# Altium footprint library Mainboard_footprints.PcbLib: 18 footprints (part 1 of 2)
Each footprint in its own frame and in the unit in brackets; x right, y up, seen from the top. Pads: shape width x height; smd on the part's side, far side on the other; paste and mask are expansions set on the pad; w line width, h text height; cw(c..) or ccw(c..) is an arc to the next point about the centre after c.
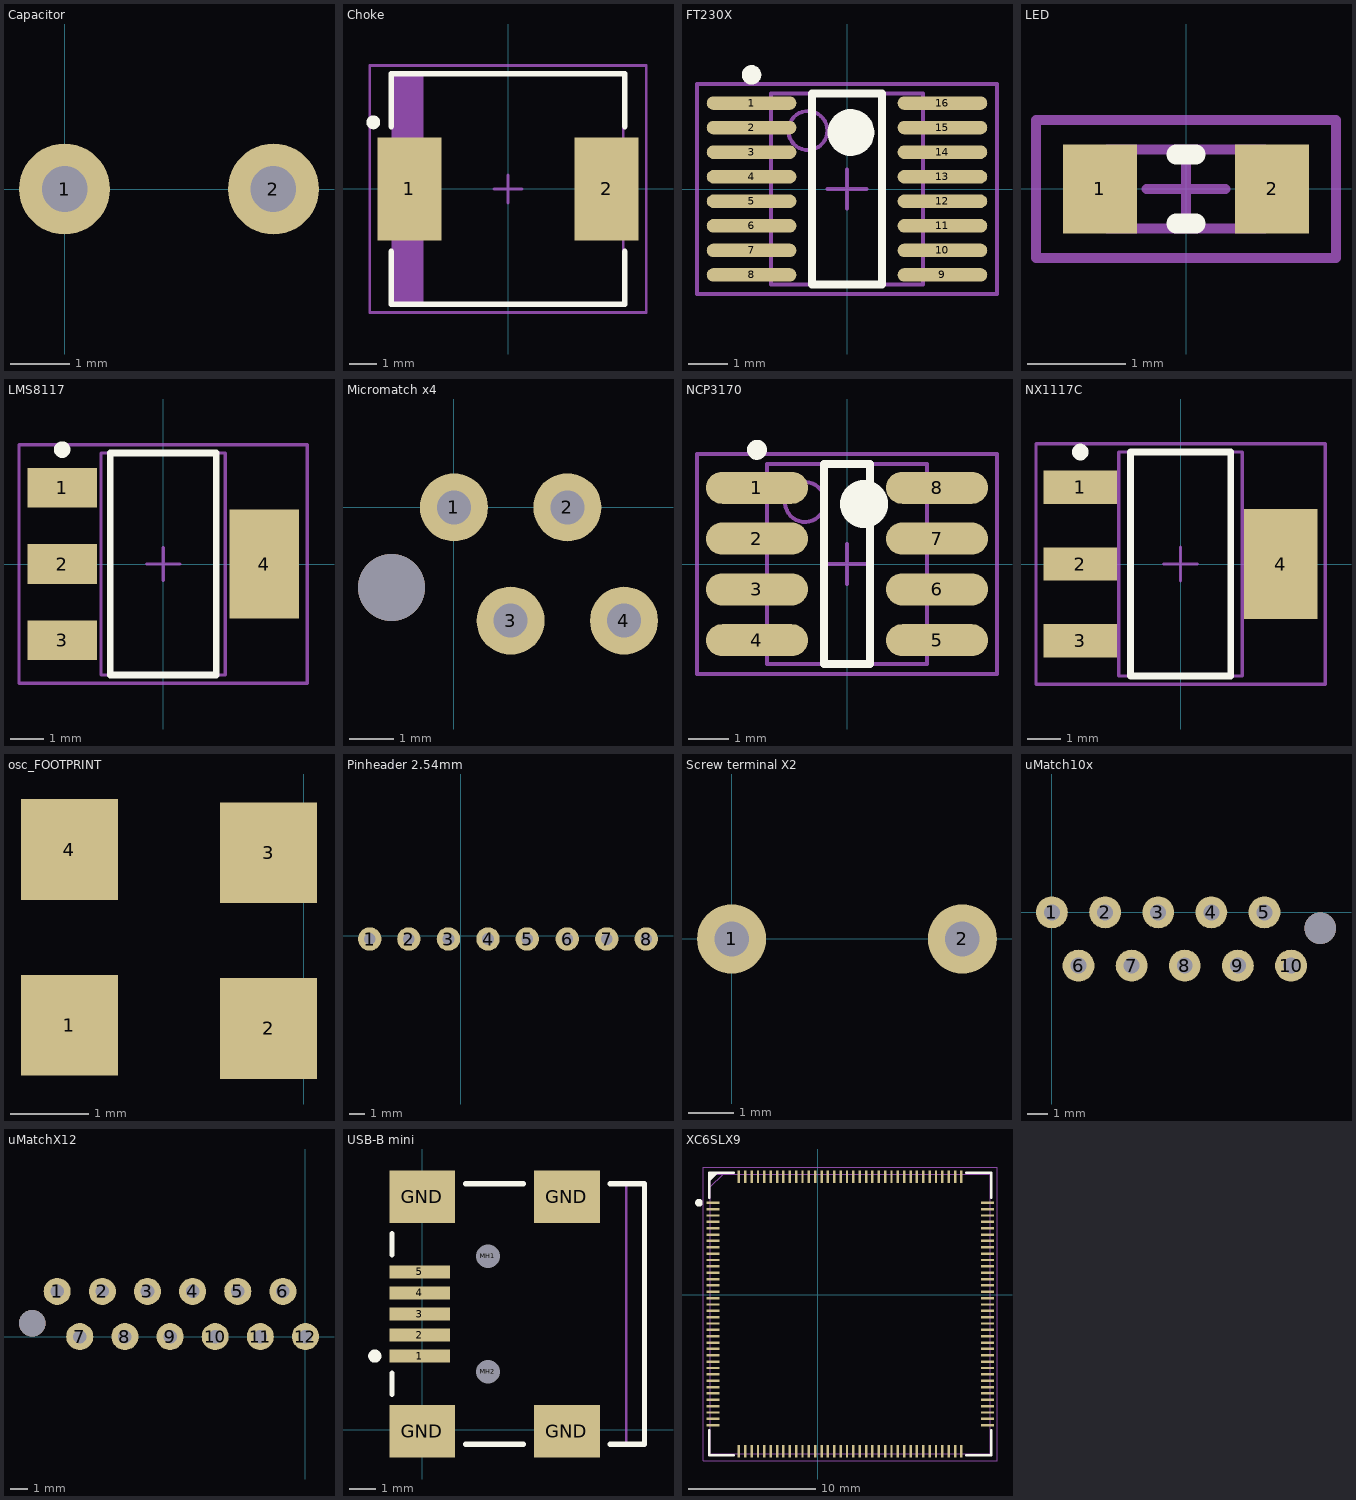
[diagram p0: the footprints below, top view; thin cyan lines are the x and y axes]

## Capacitor [mil]
pads (2):
  round 60 hole 30: 1(0,0) 2(137.8,0)

## Choke [mm] "Precision Wire Wound Inductor, 2-Leads, Body 8,2x8,2mm, IPC Medium Density"
height 2.29
pads (2):
  rect 2.3x3.7 smd: 1(-3.55,0) 2(3.55,0)
Top Overlay:
  circle w0.25: c-4.85,2.4 r0.125
  lines w0.2: -4.2,-2.25 -4.2,-4.15 4.2,-4.15 4.2,-2.25 ; -4.2,2.25 -4.2,4.15 4.2,4.15 4.2,2.25
Mechanical 13:
  rectangle: -4.15,-4.15 -3.034,4.15
  lines w0.1: -4.15,-4.15 -4.15,4.15 4.15,4.15 4.15,-4.15 -4.15,-4.15
Mechanical 15:
  lines w0.1: -0.5,0 0.5,0 ; 0,-0.5 0,0.5 ; -4.975,-4.45 -4.975,4.45 4.975,4.45 4.975,-4.45 -4.975,-4.45
3D body: height 2.29, standoff 0, extent -4.15,-4.15 4.15,4.15

## FT230X [mm] "TSOP, 16-Leads, Body 4,9x3,9mm (max), Pitch 0,63mm, IPC Medium Density"
height 1.34
pads (16):
  oval 2.3x0.35 smd: 1(-2.45,2.205) 2(-2.45,1.575) 3(-2.45,0.945) 4(-2.45,0.315) 5(-2.45,-0.315) 6(-2.45,-0.945) 7(-2.45,-1.575) 8(-2.45,-2.205) 9(2.45,-2.205) 10(2.45,-1.575) 11(2.45,-0.945) 12(2.45,-0.315) 13(2.45,0.315) 14(2.45,0.945) 15(2.45,1.575) 16(2.45,2.205)
Top Overlay:
  circle w0.6: c0.1,1.45 r0.3
  circle w0.25: c-2.45,2.93 r0.125
  lines w0.2: -0.9,-2.45 0.9,-2.45 0.9,2.45 -0.9,2.45 -0.9,-2.45
Mechanical 13:
  circle w0.1: c-1.005,1.5 r0.5
  lines w0.1: -1.955,-2.45 1.955,-2.45 1.955,2.45 -1.955,2.45 -1.955,-2.45
Mechanical 15:
  lines w0.1: -0.5,0 0.5,0 ; 0,-0.5 0,0.5 ; -3.85,-2.7 3.85,-2.7 3.85,2.7 -3.85,2.7 -3.85,-2.7
3D body: height 1.34, standoff 0.1, extent -1.955,-2.45 1.955,2.45

## LED [mm] "LED 0603, SMD"
height 0.8
pads (2):
  rect 0.75x0.9 smd: 1(-0.875,0) 2(0.875,0)
Top Overlay:
  lines w0.2: -0.1,-0.35 0.1,-0.35 ; -0.1,0.35 0.1,0.35
Mechanical 13:
  lines w0.1: -0.8,-0.4 0.8,-0.4 0.8,0.4 -0.8,0.4 -0.8,-0.4
Mechanical 15:
  lines w0.1: -0.4,0 0.4,0 ; 0,-0.4 0,0.4 ; -1.525,-0.7 1.525,-0.7 1.525,0.7 -1.525,0.7 -1.525,-0.7
3D body: height 0.8, standoff 0, extent -0.8,-0.4 0.8,0.4

## LMS8117 [mm] "LDO 5V ->3V3"
height 1.55
pads (4):
  rect 2.1x1.2 smd: 1(-3.05,2.3) 2(-3.05,0) 3(-3.05,-2.3)
  rect 2.1x3.3 smd: 4(3.05,0)
Top Overlay:
  circle w0.25: c-3.05,3.45 r0.125
  lines w0.2: -1.6,-3.35 -1.6,3.35 1.6,3.35 1.6,-3.35 -1.6,-3.35
Mechanical 13:
  lines w0.1: -1.875,-3.35 -1.875,3.35 1.875,3.35 1.875,-3.35 -1.875,-3.35
Mechanical 15:
  lines w0.1: -0.5,0 0.5,0 ; 0,-0.5 0,0.5 ; -4.35,-3.6 -4.35,3.6 4.35,3.6 4.35,-3.6 -4.35,-3.6
3D body: height 1.55, standoff 0.02, extent -1.875,-3.35 1.875,3.35

## Micromatch x4 [mil] "Micromatch x4"
pads (4):
  round 60 hole 30: 1(0,0) 2(100,0) 3(50,-100) 4(150,-100)
via -55.12,-70.87 diameter 59.06 hole 59.06
Drill Guide:
  circle w10: c-55.12,-70.87 r29.53

## NCP3170 [mm] "Voltage Regulator 18V-3V3"
height 1.75
pads (8):
  oval 2.55x0.8 smd: 1(-2.25,1.905) 2(-2.25,0.635) 3(-2.25,-0.635) 4(-2.25,-1.905) 5(2.25,-1.905) 6(2.25,-0.635) 7(2.25,0.635) 8(2.25,1.905)
Top Overlay:
  circle w0.25: c-2.25,2.855 r0.125
  circle w0.6: c0.425,1.5 r0.3
  lines w0.2: -0.575,-2.5 -0.575,2.5 0.575,2.5 0.575,-2.5 -0.575,-2.5
Mechanical 13:
  circle w0.1: c-1.05,1.55 r0.5
  lines w0.1: -2,-2.5 -2,2.5 2,2.5 2,-2.5 -2,-2.5
Mechanical 15:
  lines w0.1: -0.5,0 0.5,0 ; 0,-0.5 0,0.5 ; -3.75,-2.75 -3.75,2.75 3.75,2.75 3.75,-2.75 -3.75,-2.75
3D body: height 1.75, standoff 0.1, extent -2,-2.5 2,2.5

## NX1117C [mm] "LDO 3V3->1.2V"
height 1.8
pads (4):
  rect 2.2x1 smd: 1(-3,2.3) 2(-3,0) 3(-3,-2.3)
  rect 2.2x3.3 smd: 4(3,0)
Top Overlay:
  circle w0.25: c-3,3.35 r0.125
  lines w0.2: -1.5,-3.35 -1.5,3.35 1.5,3.35 1.5,-3.35 -1.5,-3.35
Mechanical 13:
  lines w0.1: -1.85,-3.35 -1.85,3.35 1.85,3.35 1.85,-3.35 -1.85,-3.35
Mechanical 15:
  lines w0.1: -0.5,0 0.5,0 ; 0,-0.5 0,0.5 ; -4.325,-3.6 -4.325,3.6 4.325,3.6 4.325,-3.6 -4.325,-3.6
3D body: height 1.8, standoff 0.02, extent -1.85,-3.35 1.85,3.35

## osc_FOOTPRINT [mm]
pads (4):
  rect 1.24x1.29 smd: 1(-3,2.75) 2(-0.45,2.71) 3(-0.45,4.96) 4(-3,5)

## PCBComponent_1 - duplicate [mm]

## Pinheader 2.54mm [mil]
pads (8):
  round 60 hole 30: 1(-233.27,-7.87) 2(-132.87,-7.87) 3(-31.5,-7.87) 4(69.88,-7.87) 5(170.28,-7.87) 6(272.64,-7.87) 7(374.02,-7.87) 8(475.39,-7.87)

## Screw terminal X2 [mil]
pads (2):
  round 60 hole 30: 1(0,0) 2(200,0)

## uMatch10x [mil]
pads (10):
  round 60 hole 30: 1(0,0) 2(100,0) 3(200,0) 4(300,0) 5(400,0) 6(50,-100) 7(150,-100) 8(250,-100) 9(350,-100) 10(450,-100)
via 505.12,-29.53 diameter 59.06 hole 59.06
Drill Guide:
  circle w10: c505.12,-29.13 r29.53

## uMatchX12 [mil]
pads (12):
  round 60 hole 30: 1(-550,100) 2(-450,100) 3(-350,100) 4(-250,100) 5(-150,100) 6(-50,100) 7(-500,0) 8(-400,0) 9(-300,0) 10(-200,0) 11(-100,0) 12(0,0)
via -605.12,29.13 diameter 59.06 hole 59.06
Drill Guide:
  circle w10: c-605.12,29.13 r29.53

## USB-B mini [mm]
pads (11):
  rect 2.3x0.5 smd: 1(-0.1,2.8) 2(-0.1,3.6) 3(-0.1,4.4) 4(-0.1,5.2) 5(-0.1,6)
  rect 2.5x2 smd: GND(0,-0.05) GND(0,8.85) GND(5.5,-0.05) GND(5.5,8.85)
  round 0.6 hole 0.9 unplated: MH1(2.5,6.6) MH2(2.5,2.2)
Top Overlay:
  circle w0.25: c-1.8,2.8 r0.125
  lines w0.2: -1.15,1.35 -1.15,2.15 ; -1.15,6.65 -1.15,7.45 ; 1.65,-0.55 3.85,-0.55 ; 1.65,9.35 3.85,9.35 ; 7.15,-0.55 8.45,-0.55 8.45,9.35 7.15,9.35
Mechanical 1:
  lines w0.1: 7.75,-0.55 7.75,9.35
  text "PCB Edge" at 8.182,0.364 h0.25

## XC6SLX9 [mm]
height 1.092
pads (144):
  rect 1.006x0.19 smd: 1(-8.257,7.226) 2(-8.257,6.726) 3(-8.257,6.226) 4(-8.257,5.726) 5(-8.257,5.226) 6(-8.257,4.726) 7(-8.257,4.226) 8(-8.257,3.726) 9(-8.257,3.226) 10(-8.257,2.726) 11(-8.257,2.226) 12(-8.257,1.726) 13(-8.257,1.226) 14(-8.257,0.726) 15(-8.257,0.226) 16(-8.257,-0.274) 17(-8.257,-0.774) 18(-8.257,-1.274) 19(-8.257,-1.774) 20(-8.257,-2.274) 21(-8.257,-2.774) 22(-8.257,-3.274) 23(-8.257,-3.774) 24(-8.257,-4.274) 25(-8.257,-4.774) 26(-8.257,-5.274) 27(-8.257,-5.774) 28(-8.257,-6.274) 29(-8.257,-6.774) 30(-8.257,-7.274) 31(-8.257,-7.774) 32(-8.257,-8.274) 33(-8.257,-8.774) 34(-8.257,-9.274) 35(-8.257,-9.774) 36(-8.257,-10.274) 73(13.337,-10.274) 74(13.337,-9.774) 75(13.337,-9.274) 76(13.337,-8.774) 77(13.337,-8.274) 78(13.337,-7.774) 79(13.337,-7.274) 80(13.337,-6.774) 81(13.337,-6.274) 82(13.337,-5.774) 83(13.337,-5.274) 84(13.337,-4.774) 85(13.337,-4.274) 86(13.337,-3.774) 87(13.337,-3.274) 88(13.337,-2.774) 89(13.337,-2.274) 90(13.337,-1.774) 91(13.337,-1.274) 92(13.337,-0.774) 93(13.337,-0.274) 94(13.337,0.226) 95(13.337,0.726) 96(13.337,1.226) 97(13.337,1.726) 98(13.337,2.226) 99(13.337,2.726) 100(13.337,3.226) 101(13.337,3.726) 102(13.337,4.226) 103(13.337,4.726) 104(13.337,5.226) 105(13.337,5.726) 106(13.337,6.226) 107(13.337,6.726) 108(13.337,7.226)
  rect 0.19x1.006 smd: 37(-6.21,-12.321) 38(-5.71,-12.321) 39(-5.21,-12.321) 40(-4.71,-12.321) 41(-4.21,-12.321) 42(-3.71,-12.321) 43(-3.21,-12.321) 44(-2.71,-12.321) 45(-2.21,-12.321) 46(-1.71,-12.321) 47(-1.21,-12.321) 48(-0.71,-12.321) 49(-0.21,-12.321) 50(0.29,-12.321) 51(0.79,-12.321) 52(1.29,-12.321) 53(1.79,-12.321) 54(2.29,-12.321) 55(2.79,-12.321) 56(3.29,-12.321) 57(3.79,-12.321) 58(4.29,-12.321) 59(4.79,-12.321) 60(5.29,-12.321) 61(5.79,-12.321) 62(6.29,-12.321) 63(6.79,-12.321) 64(7.29,-12.321) 65(7.79,-12.321) 66(8.29,-12.321) 67(8.79,-12.321) 68(9.29,-12.321) 69(9.79,-12.321) 70(10.29,-12.321) 71(10.79,-12.321) 72(11.29,-12.321) 109(11.29,9.273) 110(10.79,9.273) 111(10.29,9.273) 112(9.79,9.273) 113(9.29,9.273) 114(8.79,9.273) 115(8.29,9.273) 116(7.79,9.273) 117(7.29,9.273) 118(6.79,9.273) 119(6.29,9.273) 120(5.79,9.273) 121(5.29,9.273) 122(4.79,9.273) 123(4.29,9.273) 124(3.79,9.273) 125(3.29,9.273) 126(2.79,9.273) 127(2.29,9.273) 128(1.79,9.273) 129(1.29,9.273) 130(0.79,9.273) 131(0.29,9.273) 132(-0.21,9.273) 133(-0.71,9.273) 134(-1.21,9.273) 135(-1.71,9.273) 136(-2.21,9.273) 137(-2.71,9.273) 138(-3.21,9.273) 139(-3.71,9.273) 140(-4.21,9.273) 141(-4.71,9.273) 142(-5.21,9.273) 143(-5.71,9.273) 144(-6.21,9.273)
Top Overlay:
  circle w0.3: c-9.36,7.226 r0.15
  region: -8.46,8.976 -7.96,9.476 -8.46,9.476
  lines w0.2: -8.56,-10.669 -8.56,-12.624 -6.605,-12.624 ; -8.56,7.621 -8.56,9.576 -6.605,9.576 ; 11.685,-12.624 13.64,-12.624 13.64,-10.669 ; 11.685,9.576 13.64,9.576 13.64,7.621
Mechanical 13:
  lines w0.05: -8.46,8.476 -7.46,9.476 ; -8.46,-12.524 13.54,-12.524 13.54,9.476 -8.46,9.476 -8.46,-12.524
Mechanical 15:
  lines w0.05: -9.01,-13.074 14.09,-13.074 14.09,10.026 -9.01,10.026 -9.01,-13.074